# EAGLE library part CONN_JED_PLUG_8 (library psas_eagle_library)
JST corp JED series connector. This is an 8 position shrouded plug.
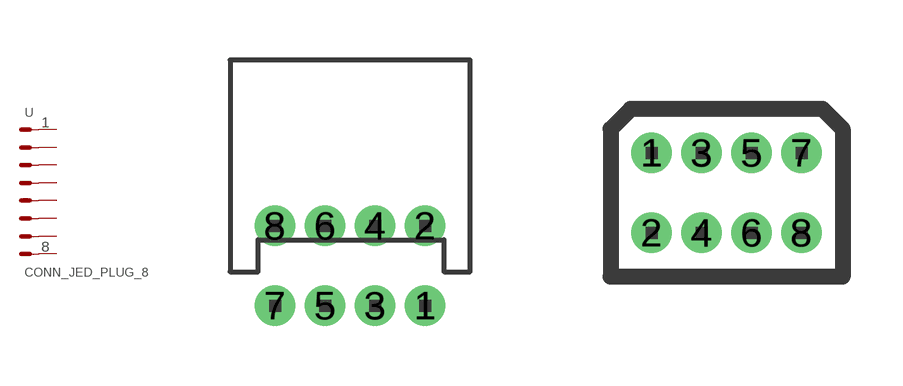
[diagram p18: symbol with the pads of JST-08PS-JED; footprints JST-08PS-JED, JST-08P-JED]

Designator prefix -

## CONN_JED_PLUG_8_RIGHTANGLE  [JST-08PS-JED]
1  1  pas
2  2  pas
3  3  pas
4  4  pas
5  5  pas
6  6  pas
7  7  pas
8  8  pas

## CONN_JED_PLUG_8_VERTICAL  [JST-08P-JED]
Pads as for JST-08PS-JED

## Footprint JST-08PS-JED (pad centres in mm)
JST corp JED series connector. This is an 8 position, right angle, shrouded plug.
drill 0.508 pad 1.016 round: 1 1.875,-2; 2 1.875,0; 3 0.625,-2; 4 0.625,0; 5 -0.625,-2; 6 -0.625,0; 7 -1.875,-2; 8 -1.875,0

## Footprint JST-08P-JED (pad centres in mm)
JST corp JED series connector. This is an 8 position, vertical shrouded plug.
drill 0.508 pad 1.016 round: 1 -1.875,1; 2 -1.875,-1; 3 -0.625,1; 4 -0.625,-1; 5 0.625,1; 6 0.625,-1; 7 1.875,1; 8 1.875,-1